# EAGLE library part MICS-14 (library con-lumberg)
CONNECTOR
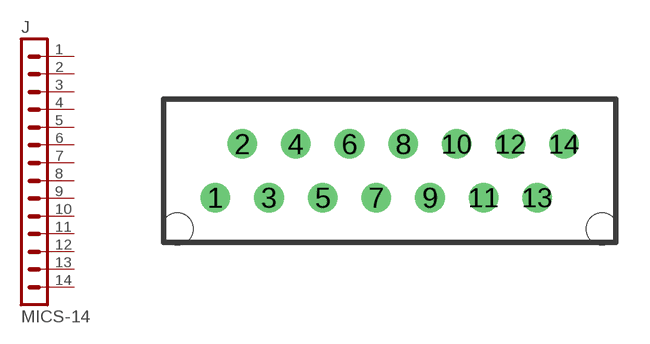
[diagram p4: symbol with the pads of MICS-14; footprint MICS-14]

Designator prefix J

## MICS-14  [MICS-14]
1  1  pas
2  2  pas
3  3  pas
4  4  pas
5  5  pas
6  6  pas
7  7  pas
8  8  pas
9  9  pas
10  10  pas
11  11  pas
12  12  pas
13  13  pas
14  14  pas

## Footprint MICS-14 (pad centres in mm)
CONNECTOR
drill 0.85 pad 1.397: 1 -8.255,-1.27; 2 -6.985,1.27; 3 -5.715,-1.27; 4 -4.445,1.27; 5 -3.175,-1.27; 6 -1.905,1.27; 7 -0.635,-1.27; 8 0.635,1.27; 9 1.905,-1.27; 10 3.175,1.27; 11 4.445,-1.27; 12 5.715,1.27; 13 6.985,-1.27; 14 8.255,1.27
hole 1.5 at 10.055,-2.75
hole 1.5 at -10.055,-2.75